# Altium integrated library Analog Devices Amplifiers and Linear Voltage References.IntLib: 547 symbols (part 18 of 20)
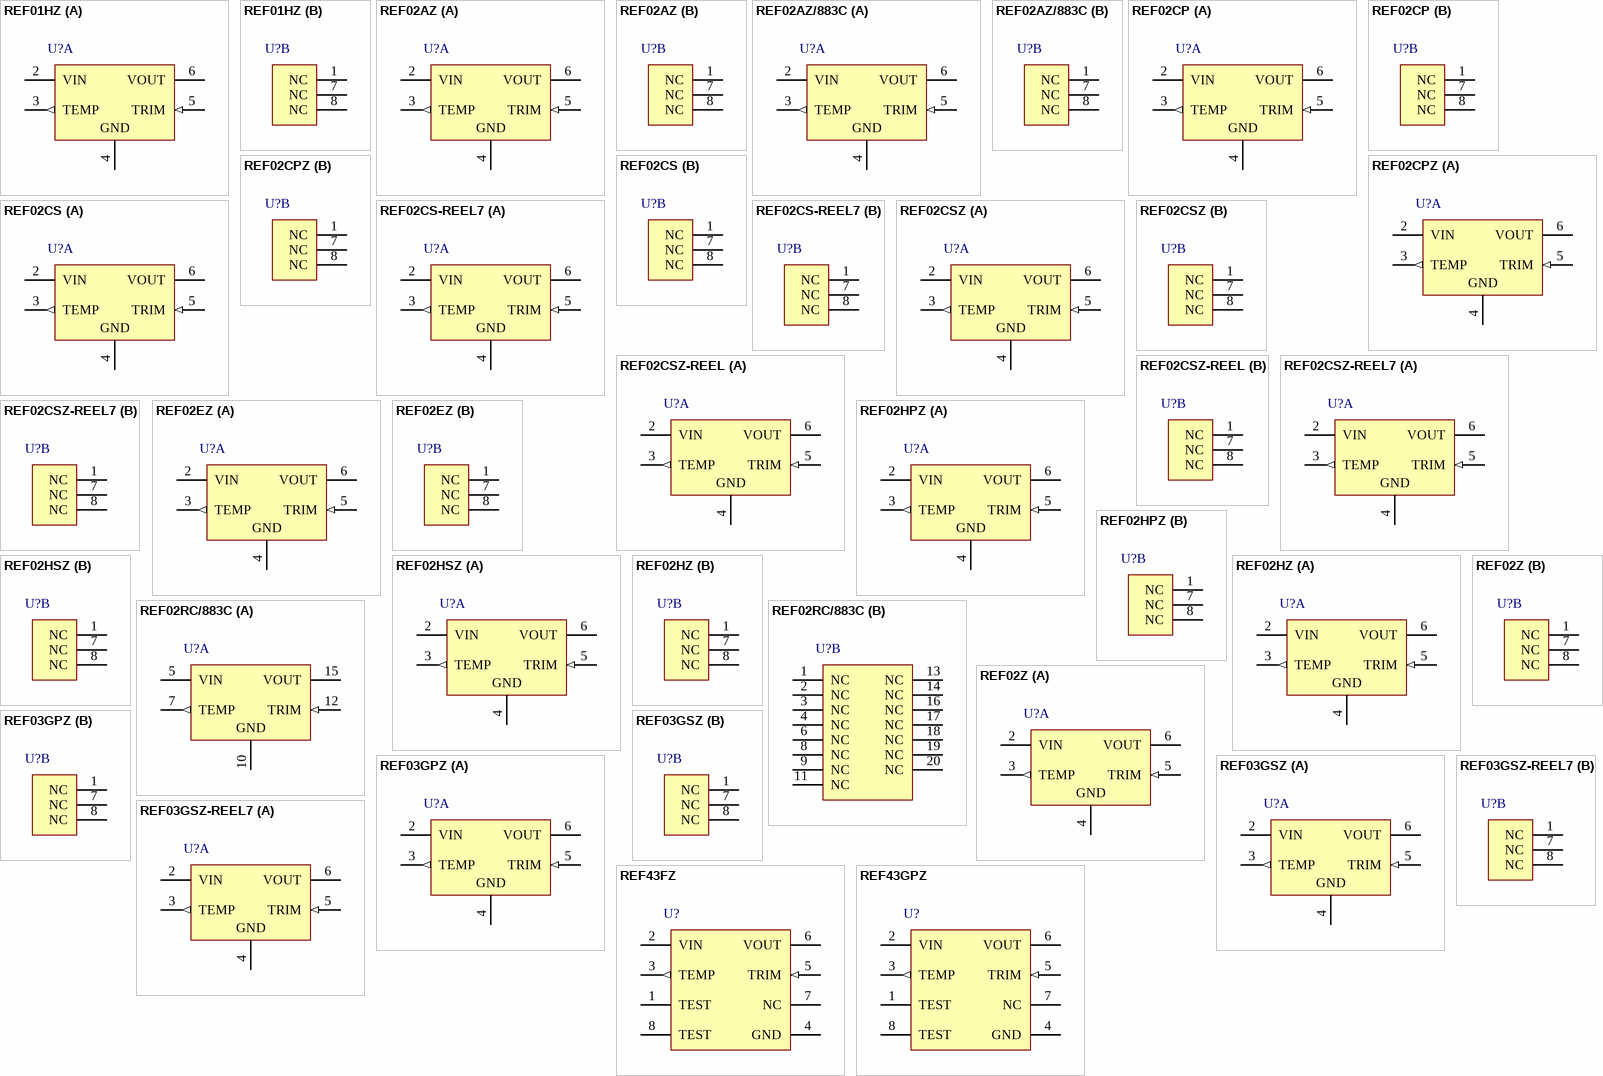
[diagram p37: symbols REF01HZ to REF43GPZ]

## REF43FZ
designator U?
Low Power Precision Voltage Reference, 2.5 V Output, 4.5 to 40 V Supply, Industrial, 8-pin DIP (Q-8), Tube; Manufacturer: Analog Devices; PartNumber: REF43FZ; Max V Supply (V): 40; Min V Supply (V): 4.5; Ref Out TC (ppm/C): 10; Vout: 2.5V; DatasheetVersion: Rev. D; PackageVersion: Aug-05; PackageReference: Q-8; PackageDescription: 8-Pin Ceramic Dual In-Line Package, Row spacing 7.62 mm, Pitch 2.54 mm; Supplier 1: Digi-Key; Supplier Part Number 1: REF43FZ-ND; Supplier 2: Newark; Supplier Part Number 2: 05F9000; Supplier 3: Mouser; Supplier Part Number 3: 584-REF43FZ; Packing: Tube; Operating Temp Range: -40 to 85 degC; Mounting Technology: Through Hole; ComponentLink1Description: Manufacturer URL; ComponentLink1URL: http://www.analog.com/en/index.html; ComponentLink2Description: Datasheet; ComponentLink2URL: http://www.analog.com/static/imported-files/data_sheets/REF43.pdf; ComponentLink3Description: Package Specification; ComponentLink3URL: http://www.analog.com/static/imported-files/packages/3925655241313314758Q_8.pdf; ComponentLink4Description: URL Link1; ComponentLink4URL: Product URL:http://www.analog.com/en/special-linear-functions/voltage-references/ref43/products/product.html
footprint ADI-Q-8 (DIP, 8-Leads, Body 10.29x6.73mm, Pitch 2.54mm)
pins: 1 TEST, 2 VIN (power), 3 TEMP (out), 4 GND (power), 5 TRIM (in), 6 VOUT (power), 7 NC, 8 TEST

## REF43GPZ
designator U?
Low Power Precision Voltage Reference, 2.5 V Output, 4.5 to 40 V Supply, Industrial, 8-pin DIP (N-8), Tube; Manufacturer: Analog Devices; PartNumber: REF43GPZ; Max V Supply (V): 40; Min V Supply (V): 4.5; Ref Out TC (ppm/C): 25; Vout: 2.5V; DatasheetVersion: Rev. D; PackageVersion: 070606-A, 07/2006; PackageReference: N-8; PackageDescription: 8-Pin Plastic Dual In-Line Package, Row spacing 7.62 mm, Pitch 2.54 mm; Supplier 1: Digi-Key; Supplier Part Number 1: REF43GPZ-ND; Supplier 2: Farnell; Supplier Part Number 2: 9605100; Supplier 3: Newark; Supplier Part Number 3: 19M1043; Supplier 4: Mouser; Supplier Part Number 4: 584-REF43GPZ; Packing: Tube; Operating Temp Range: -40 to 85 degC; Mounting Technology: Through Hole; Code_JEDEC: MS-001; ComponentLink1Description: Manufacturer URL; ComponentLink1URL: http://www.analog.com/en/index.html; ComponentLink2Description: Datasheet; ComponentLink2URL: http://www.analog.com/static/imported-files/data_sheets/REF43.pdf; ComponentLink3Description: Package Specification; ComponentLink3URL: http:/www.analog.com/static/imported-files/packages/PKG_PDF/PDIP(N)/N_8.pdf; ComponentLink4Description: URL Link1; ComponentLink4URL: Product URL:http://www.analog.com/en/special-linear-functions/voltage-references/ref43/products/product.html
footprint ADI-N-8 (DIP, 8-Leads, Body 9.59x6.6mm, Pitch 2.54mm)
pins: 1 TEST, 2 VIN (power), 3 TEMP (out), 4 GND (power), 5 TRIM (in), 6 VOUT (power), 7 NC, 8 TEST

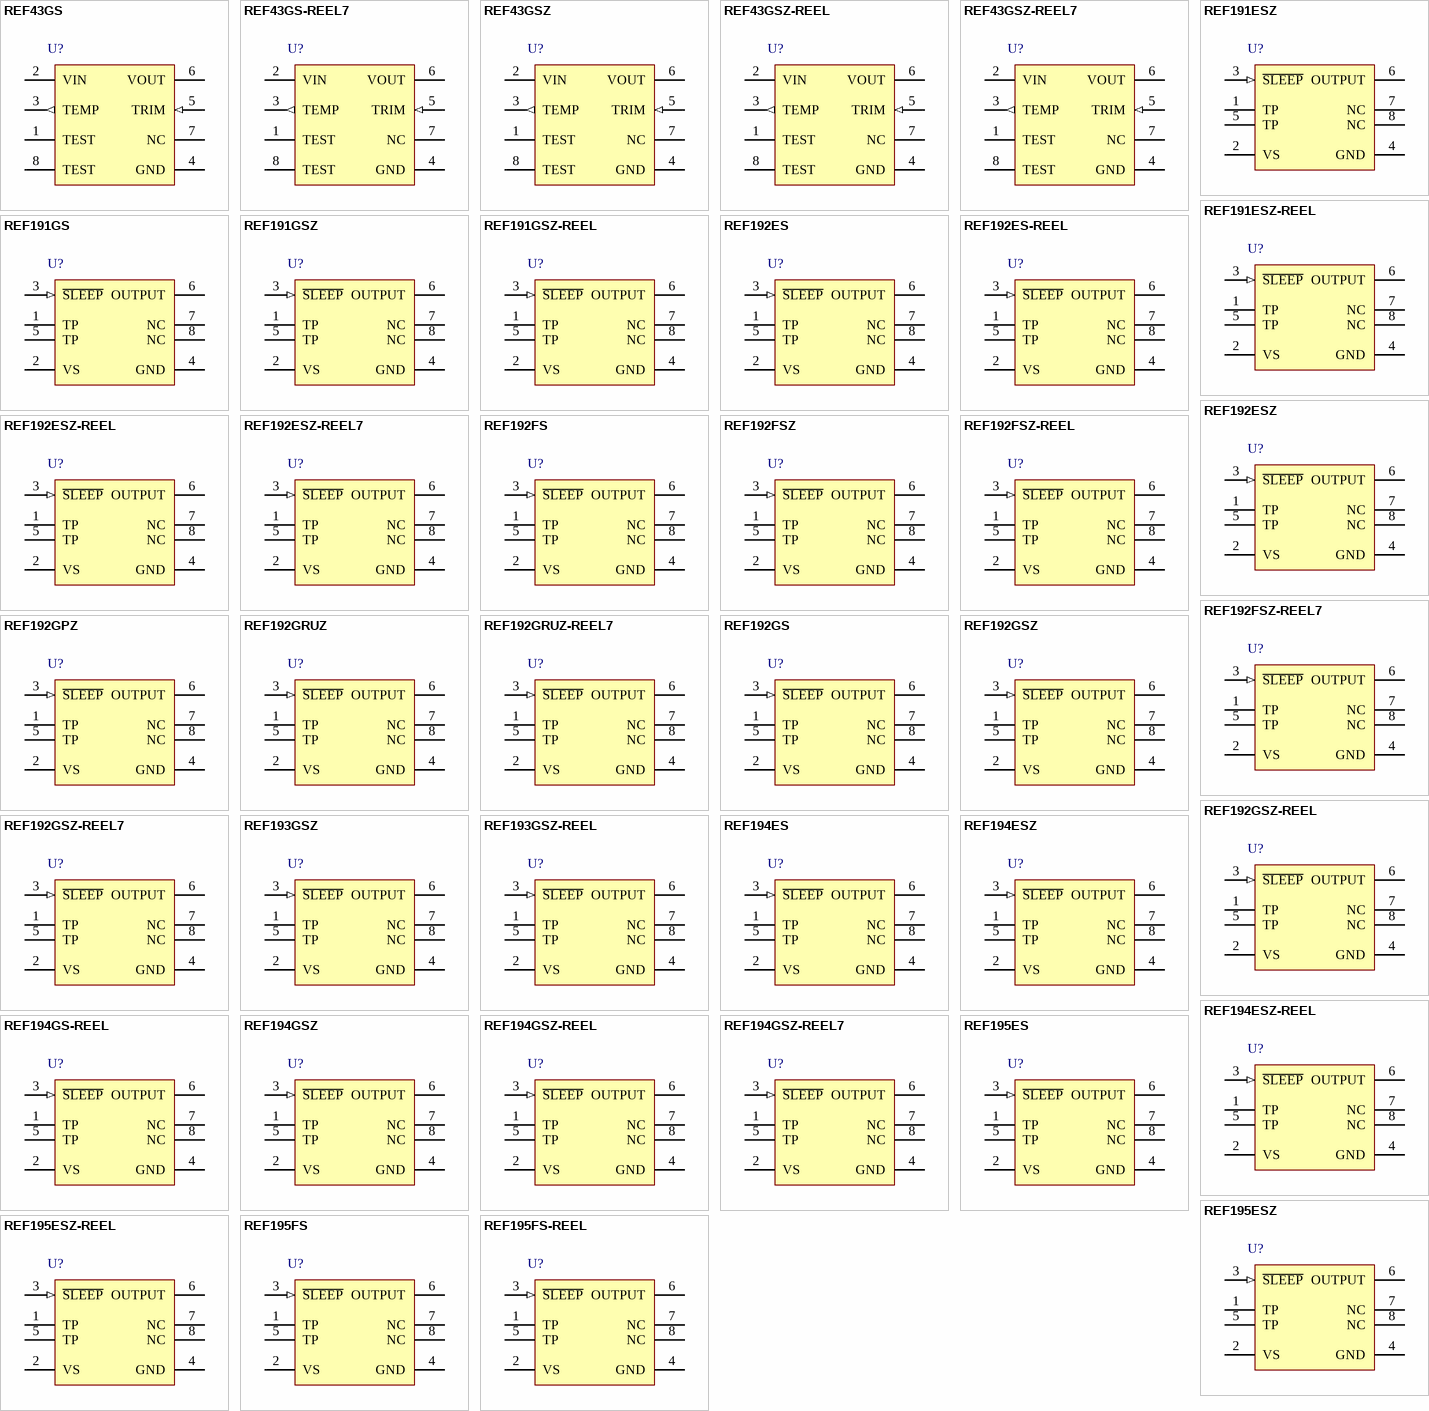
[diagram p19: symbols REF43GS to REF195FS-REEL]

## REF43GS
designator U?
Low Power Precision Voltage Reference, 2.5 V Output, 4.5 to 40 V Supply, Industrial, 8-pin SOIC (R-8), Tube; Manufacturer: Analog Devices; PartNumber: REF43GS; Max V Supply (V): 40; Min V Supply (V): 4.5; Ref Out TC (ppm/C): 25; Vout: 2.5V; DatasheetVersion: Rev. D; PackageVersion: 060506-A, 06/2006; PackageReference: R-8; PackageDescription: 8-Pin Standard Small Outline Package, Body 4.9 x 3.9 mm, Pitch 1.27 mm; Supplier 1: Digi-Key; Supplier Part Number 1: REF43GS-ND; Supplier 2: Mouser; Supplier Part Number 2: N/A; Packing: Tube; Operating Temp Range: -40 to 85 degC; Mounting Technology: Surface Mount; Code_JEDEC: MS-012-AA; ComponentLink1Description: Manufacturer URL; ComponentLink1URL: http://www.analog.com/en/index.html; ComponentLink2Description: Datasheet; ComponentLink2URL: http://www.analog.com/static/imported-files/data_sheets/REF43.pdf; ComponentLink3Description: Package Specification; ComponentLink3URL: http://www.analog.com/static/imported-files/packages/PKG_PDF/SOIC_Narrow%20(R)/R_8.pdf; ComponentLink4Description: URL Link1; ComponentLink4URL: Product URL:http://www.analog.com/en/special-linear-functions/voltage-references/ref43/products/product.html
footprint ADI-R-8_N (SOIC, 8-Leads, Body 4.9x3.9mm, Pitch 1.27mm, IPC Medium Density)
footprint ADI-R-8_L (SOIC, 8-Leads, Body 4.9x3.9mm, Pitch 1.27mm, IPC High Density)
footprint ADI-R-8_M (SOIC, 8-Leads, Body 4.9x3.9mm, Pitch 1.27mm, IPC Low Density)
pins: 1 TEST, 2 VIN (power), 3 TEMP (out), 4 GND (power), 5 TRIM (in), 6 VOUT (power), 7 NC, 8 TEST

## REF43GS-REEL7
designator U?
Low Power Precision Voltage Reference, 2.5 V Output, 4.5 to 40 V Supply, Industrial, 8-pin SOIC (R-8), Reel; Manufacturer: Analog Devices; PartNumber: REF43GS-REEL7; Max V Supply (V): 40; Min V Supply (V): 4.5; Ref Out TC (ppm/C): 25; Vout: 2.5V; DatasheetVersion: Rev. D; PackageVersion: 060506-A, 06/2006; PackageReference: R-8; PackageDescription: 8-Pin Standard Small Outline Package, Body 4.9 x 3.9 mm, Pitch 1.27 mm; Supplier 1: Digi-Key; Supplier Part Number 1: REF43GS-REEL7-ND; Supplier 2: Newark; Supplier Part Number 2: 98B7586; Supplier 3: Mouser; Supplier Part Number 3: N/A; Packing: Reel; Operating Temp Range: -40 to 85 degC; Mounting Technology: Surface Mount; Code_JEDEC: MS-012-AA; ComponentLink1Description: Manufacturer URL; ComponentLink1URL: http://www.analog.com/en/index.html; ComponentLink2Description: Datasheet; ComponentLink2URL: http://www.analog.com/static/imported-files/data_sheets/REF43.pdf; ComponentLink3Description: Package Specification; ComponentLink3URL: http://www.analog.com/static/imported-files/packages/PKG_PDF/SOIC_Narrow%20(R)/R_8.pdf; ComponentLink4Description: URL Link1; ComponentLink4URL: Product URL:http://www.analog.com/en/special-linear-functions/voltage-references/ref43/products/product.html
footprint ADI-R-8_N (SOIC, 8-Leads, Body 4.9x3.9mm, Pitch 1.27mm, IPC Medium Density)
footprint ADI-R-8_L (SOIC, 8-Leads, Body 4.9x3.9mm, Pitch 1.27mm, IPC High Density)
footprint ADI-R-8_M (SOIC, 8-Leads, Body 4.9x3.9mm, Pitch 1.27mm, IPC Low Density)
pins: 1 TEST, 2 VIN (power), 3 TEMP (out), 4 GND (power), 5 TRIM (in), 6 VOUT (power), 7 NC, 8 TEST

## REF43GSZ
designator U?
Low Power Precision Voltage Reference, 2.5 V Output, 4.5 to 40 V Supply, Industrial, 8-pin SOIC (R-8), Tube; Manufacturer: Analog Devices; PartNumber: REF43GSZ; Max V Supply (V): 40; Min V Supply (V): 4.5; Ref Out TC (ppm/C): 25; Vout: 2.5V; DatasheetVersion: Rev. D; PackageVersion: 060506-A, 06/2006; PackageReference: R-8; PackageDescription: 8-Pin Standard Small Outline Package, Body 4.9 x 3.9 mm, Pitch 1.27 mm; Supplier 1: Digi-Key; Supplier Part Number 1: REF43GSZ-ND; Supplier 2: Farnell; Supplier Part Number 2: 1651197; Supplier 3: Newark; Supplier Part Number 3: 59K9069; Supplier 4: Mouser; Supplier Part Number 4: 584-REF43GSZ; Packing: Tube; Operating Temp Range: -40 to 85 degC; Mounting Technology: Surface Mount; Code_JEDEC: MS-012-AA; ComponentLink1Description: Manufacturer URL; ComponentLink1URL: http://www.analog.com/en/index.html; ComponentLink2Description: Datasheet; ComponentLink2URL: http://www.analog.com/static/imported-files/data_sheets/REF43.pdf; ComponentLink3Description: Package Specification; ComponentLink3URL: http://www.analog.com/static/imported-files/packages/PKG_PDF/SOIC_Narrow%20(R)/R_8.pdf; ComponentLink4Description: URL Link1; ComponentLink4URL: Product URL:http://www.analog.com/en/special-linear-functions/voltage-references/ref43/products/product.html
footprint ADI-R-8_N (SOIC, 8-Leads, Body 4.9x3.9mm, Pitch 1.27mm, IPC Medium Density)
footprint ADI-R-8_L (SOIC, 8-Leads, Body 4.9x3.9mm, Pitch 1.27mm, IPC High Density)
footprint ADI-R-8_M (SOIC, 8-Leads, Body 4.9x3.9mm, Pitch 1.27mm, IPC Low Density)
pins: 1 TEST, 2 VIN (power), 3 TEMP (out), 4 GND (power), 5 TRIM (in), 6 VOUT (power), 7 NC, 8 TEST

## REF43GSZ-REEL
designator U?
Low Power Precision Voltage Reference, 2.5 V Output, 4.5 to 40 V Supply, Industrial, 8-pin SOIC (R-8), Reel; Manufacturer: Analog Devices; PartNumber: REF43GSZ-REEL; Max V Supply (V): 40; Min V Supply (V): 4.5; Ref Out TC (ppm/C): 25; Vout: 2.5V; DatasheetVersion: Rev. D; PackageVersion: 060506-A, 06/2006; PackageReference: R-8; PackageDescription: 8-Pin Standard Small Outline Package, Body 4.9 x 3.9 mm, Pitch 1.27 mm; Supplier 1: Digi-Key; Supplier Part Number 1: REF43GSZ-REEL-ND; Supplier 2: Newark; Supplier Part Number 2: 59K9070; Supplier 3: Mouser; Supplier Part Number 3: 584-REF43GSZ-R; Packing: Reel; Operating Temp Range: -40 to 85 degC; Mounting Technology: Surface Mount; Code_JEDEC: MS-012-AA; ComponentLink1Description: Manufacturer URL; ComponentLink1URL: http://www.analog.com/en/index.html; ComponentLink2Description: Datasheet; ComponentLink2URL: http://www.analog.com/static/imported-files/data_sheets/REF43.pdf; ComponentLink3Description: Package Specification; ComponentLink3URL: http://www.analog.com/static/imported-files/packages/PKG_PDF/SOIC_Narrow%20(R)/R_8.pdf; ComponentLink4Description: URL Link1; ComponentLink4URL: Product URL:http://www.analog.com/en/special-linear-functions/voltage-references/ref43/products/product.html
footprint ADI-R-8_N (SOIC, 8-Leads, Body 4.9x3.9mm, Pitch 1.27mm, IPC Medium Density)
footprint ADI-R-8_L (SOIC, 8-Leads, Body 4.9x3.9mm, Pitch 1.27mm, IPC High Density)
footprint ADI-R-8_M (SOIC, 8-Leads, Body 4.9x3.9mm, Pitch 1.27mm, IPC Low Density)
pins: 1 TEST, 2 VIN (power), 3 TEMP (out), 4 GND (power), 5 TRIM (in), 6 VOUT (power), 7 NC, 8 TEST

## REF43GSZ-REEL7
designator U?
Low Power Precision Voltage Reference, 2.5 V Output, 4.5 to 40 V Supply, Industrial, 8-pin SOIC (R-8), Reel; Manufacturer: Analog Devices; PartNumber: REF43GSZ-REEL7; Max V Supply (V): 40; Min V Supply (V): 4.5; Ref Out TC (ppm/C): 25; Vout: 2.5V; DatasheetVersion: Rev. D; PackageVersion: 060506-A, 06/2006; PackageReference: R-8; PackageDescription: 8-Pin Standard Small Outline Package, Body 4.9 x 3.9 mm, Pitch 1.27 mm; Supplier 1: Digi-Key; Supplier Part Number 1: REF43GSZ-REEL7TR-ND; Supplier 2: Digi-Key; Supplier Part Number 2: REF43GSZ-REEL7CT-ND; Supplier 3: Digi-Key; Supplier Part Number 3: REF43GSZ-REEL7DKR-ND; Supplier 4: Newark; Supplier Part Number 4: 59K9071; Supplier 5: Mouser; Supplier Part Number 5: 584-REF43GSZ-R7; Packing: Reel; Operating Temp Range: -40 to 85 degC; Mounting Technology: Surface Mount; Code_JEDEC: MS-012-AA; ComponentLink1Description: Manufacturer URL; ComponentLink1URL: http://www.analog.com/en/index.html; ComponentLink2Description: Datasheet; ComponentLink2URL: http://www.analog.com/static/imported-files/data_sheets/REF43.pdf; ComponentLink3Description: Package Specification; ComponentLink3URL: http://www.analog.com/static/imported-files/packages/PKG_PDF/SOIC_Narrow%20(R)/R_8.pdf; ComponentLink4Description: URL Link1; ComponentLink4URL: Product URL:http://www.analog.com/en/special-linear-functions/voltage-references/ref43/products/product.html
footprint ADI-R-8_N (SOIC, 8-Leads, Body 4.9x3.9mm, Pitch 1.27mm, IPC Medium Density)
footprint ADI-R-8_L (SOIC, 8-Leads, Body 4.9x3.9mm, Pitch 1.27mm, IPC High Density)
footprint ADI-R-8_M (SOIC, 8-Leads, Body 4.9x3.9mm, Pitch 1.27mm, IPC Low Density)
pins: 1 TEST, 2 VIN (power), 3 TEMP (out), 4 GND (power), 5 TRIM (in), 6 VOUT (power), 7 NC, 8 TEST

## REF191ESZ
designator U?
Precision Micropower, Low Dropout Voltage Reference, 2.048 V Output, 2.3 to 15 V Supply, Industrial, 8-pin SOIC (R-8), Tube; Manufacturer: Analog Devices; PartNumber: REF191ESZ; Ref Out TC (ppm/C): 2; Vout: 2.048V; DatasheetVersion: Rev. L; PackageVersion: 060506-A, 06/2006; PackageReference: R-8; PackageDescription: 8-Pin Standard Small Outline Package, Body 4.9 x 3.9 mm, Pitch 1.27 mm; Supplier 1: Digi-Key; Supplier Part Number 1: REF191ESZ-ND; Supplier 2: Newark; Supplier Part Number 2: 19M8994; Supplier 3: Mouser; Supplier Part Number 3: 584-REF191ESZ; Packing: Tube; Operating Temp Range: -40 to 85 degC; Mounting Technology: Surface Mount; Code_JEDEC: MS-012-AA; ComponentLink1Description: Manufacturer URL; ComponentLink1URL: http://www.analog.com/en/index.html; ComponentLink2Description: Datasheet; ComponentLink2URL: http://www.analog.com/static/imported-files/data_sheets/REF19xSeries.pdf; ComponentLink3Description: Package Specification; ComponentLink3URL: http://www.analog.com/static/imported-files/packages/PKG_PDF/SOIC_Narrow%20(R)/R_8.pdf; ComponentLink4Description: URL Link1; ComponentLink4URL: Product URL:http://www.analog.com/en/special-linear-functions/voltage-references/ref191/products/product.html
footprint ADI-R-8_N (SOIC, 8-Leads, Body 4.9x3.9mm, Pitch 1.27mm, IPC Medium Density)
footprint ADI-R-8_L (SOIC, 8-Leads, Body 4.9x3.9mm, Pitch 1.27mm, IPC High Density)
footprint ADI-R-8_M (SOIC, 8-Leads, Body 4.9x3.9mm, Pitch 1.27mm, IPC Low Density)
pins: 1 TP, 2 VS (power), 3 ~{SLEEP} (in), 4 GND (power), 5 TP, 6 OUTPUT (hiz), 7 NC, 8 NC

## REF191ESZ-REEL
designator U?
Precision Micropower, Low Dropout Voltage Reference, 2.048 V Output, 2.3 to 15 V Supply, Industrial, 8-pin SOIC (R-8), Reel; Manufacturer: Analog Devices; PartNumber: REF191ESZ-REEL; Ref Out TC (ppm/C): 2; Vout: 2.048V; DatasheetVersion: Rev. L; PackageVersion: 060506-A, 06/2006; PackageReference: R-8; PackageDescription: 8-Pin Standard Small Outline Package, Body 4.9 x 3.9 mm, Pitch 1.27 mm; Supplier 1: Digi-Key; Supplier Part Number 1: REF191ESZ-REELTR-ND; Supplier 2: Digi-Key; Supplier Part Number 2: REF191ESZ-REELCT-ND; Supplier 3: Digi-Key; Supplier Part Number 3: REF191ESZ-REELDKR-ND; Supplier 4: Newark; Supplier Part Number 4: 59K9021; Supplier 5: Mouser; Supplier Part Number 5: 584-REF191ESZ-R; Packing: Reel; Operating Temp Range: -40 to 85 degC; Mounting Technology: Surface Mount; Code_JEDEC: MS-012-AA; ComponentLink1Description: Manufacturer URL; ComponentLink1URL: http://www.analog.com/en/index.html; ComponentLink2Description: Datasheet; ComponentLink2URL: http://www.analog.com/static/imported-files/data_sheets/REF19xSeries.pdf; ComponentLink3Description: Package Specification; ComponentLink3URL: http://www.analog.com/static/imported-files/packages/PKG_PDF/SOIC_Narrow%20(R)/R_8.pdf; ComponentLink4Description: URL Link1; ComponentLink4URL: Product URL:http://www.analog.com/en/special-linear-functions/voltage-references/ref191/products/product.html
footprint ADI-R-8_N (SOIC, 8-Leads, Body 4.9x3.9mm, Pitch 1.27mm, IPC Medium Density)
footprint ADI-R-8_L (SOIC, 8-Leads, Body 4.9x3.9mm, Pitch 1.27mm, IPC High Density)
footprint ADI-R-8_M (SOIC, 8-Leads, Body 4.9x3.9mm, Pitch 1.27mm, IPC Low Density)
pins: 1 TP, 2 VS (power), 3 ~{SLEEP} (in), 4 GND (power), 5 TP, 6 OUTPUT (hiz), 7 NC, 8 NC

## REF191GS
designator U?
Precision Micropower, Low Dropout Voltage Reference, 2.048 V Output, 2.3 to 15 V Supply, Industrial, 8-pin SOIC (R-8), Tube; Manufacturer: Analog Devices; PartNumber: REF191GS; Ref Out TC (ppm/C): 10; Vout: 2.048V; DatasheetVersion: Rev. L; PackageVersion: 060506-A, 06/2006; PackageReference: R-8; PackageDescription: 8-Pin Standard Small Outline Package, Body 4.9 x 3.9 mm, Pitch 1.27 mm; Supplier 1: Digi-Key; Supplier Part Number 1: REF191GS-ND; Supplier 2: Mouser; Supplier Part Number 2: N/A; Packing: Tube; Operating Temp Range: -40 to 85 degC; Mounting Technology: Surface Mount; Code_JEDEC: MS-012-AA; ComponentLink1Description: Manufacturer URL; ComponentLink1URL: http://www.analog.com/en/index.html; ComponentLink2Description: Datasheet; ComponentLink2URL: http://www.analog.com/static/imported-files/data_sheets/REF19xSeries.pdf; ComponentLink3Description: Package Specification; ComponentLink3URL: http://www.analog.com/static/imported-files/packages/PKG_PDF/SOIC_Narrow%20(R)/R_8.pdf; ComponentLink4Description: URL Link1; ComponentLink4URL: Product URL:http://www.analog.com/en/special-linear-functions/voltage-references/ref191/products/product.html
footprint ADI-R-8_N (SOIC, 8-Leads, Body 4.9x3.9mm, Pitch 1.27mm, IPC Medium Density)
footprint ADI-R-8_L (SOIC, 8-Leads, Body 4.9x3.9mm, Pitch 1.27mm, IPC High Density)
footprint ADI-R-8_M (SOIC, 8-Leads, Body 4.9x3.9mm, Pitch 1.27mm, IPC Low Density)
pins: 1 TP, 2 VS (power), 3 ~{SLEEP} (in), 4 GND (power), 5 TP, 6 OUTPUT (hiz), 7 NC, 8 NC

## REF191GSZ
designator U?
Precision Micropower, Low Dropout Voltage Reference, 2.048 V Output, 2.3 to 15 V Supply, Industrial, 8-pin SOIC (R-8), Tube; Manufacturer: Analog Devices; PartNumber: REF191GSZ; Ref Out TC (ppm/C): 10; Vout: 2.048V; DatasheetVersion: Rev. L; PackageVersion: 060506-A, 06/2006; PackageReference: R-8; PackageDescription: 8-Pin Standard Small Outline Package, Body 4.9 x 3.9 mm, Pitch 1.27 mm; Supplier 1: Digi-Key; Supplier Part Number 1: REF191GSZ-ND; Supplier 2: Newark; Supplier Part Number 2: 19M8995; Supplier 3: Mouser; Supplier Part Number 3: 584-REF191GSZ; Packing: Tube; Operating Temp Range: -40 to 85 degC; Mounting Technology: Surface Mount; Code_JEDEC: MS-012-AA; ComponentLink1Description: Manufacturer URL; ComponentLink1URL: http://www.analog.com/en/index.html; ComponentLink2Description: Datasheet; ComponentLink2URL: http://www.analog.com/static/imported-files/data_sheets/REF19xSeries.pdf; ComponentLink3Description: Package Specification; ComponentLink3URL: http://www.analog.com/static/imported-files/packages/PKG_PDF/SOIC_Narrow%20(R)/R_8.pdf; ComponentLink4Description: URL Link1; ComponentLink4URL: Product URL:http://www.analog.com/en/special-linear-functions/voltage-references/ref191/products/product.html
footprint ADI-R-8_N (SOIC, 8-Leads, Body 4.9x3.9mm, Pitch 1.27mm, IPC Medium Density)
footprint ADI-R-8_L (SOIC, 8-Leads, Body 4.9x3.9mm, Pitch 1.27mm, IPC High Density)
footprint ADI-R-8_M (SOIC, 8-Leads, Body 4.9x3.9mm, Pitch 1.27mm, IPC Low Density)
pins: 1 TP, 2 VS (power), 3 ~{SLEEP} (in), 4 GND (power), 5 TP, 6 OUTPUT (hiz), 7 NC, 8 NC

## REF191GSZ-REEL
designator U?
Precision Micropower, Low Dropout Voltage Reference, 2.048 V Output, 2.3 to 15 V Supply, Industrial, 8-pin SOIC (R-8), Reel; Manufacturer: Analog Devices; PartNumber: REF191GSZ-REEL; Ref Out TC (ppm/C): 10; Vout: 2.048V; DatasheetVersion: Rev. L; PackageVersion: 060506-A, 06/2006; PackageReference: R-8; PackageDescription: 8-Pin Standard Small Outline Package, Body 4.9 x 3.9 mm, Pitch 1.27 mm; Supplier 1: Digi-Key; Supplier Part Number 1: REF191GSZ-REEL-ND; Supplier 2: Newark; Supplier Part Number 2: 59K9024; Supplier 3: Mouser; Supplier Part Number 3: 584-REF191GSZ-R; Packing: Reel; Operating Temp Range: -40 to 85 degC; Mounting Technology: Surface Mount; Code_JEDEC: MS-012-AA; ComponentLink1Description: Manufacturer URL; ComponentLink1URL: http://www.analog.com/en/index.html; ComponentLink2Description: Datasheet; ComponentLink2URL: http://www.analog.com/static/imported-files/data_sheets/REF19xSeries.pdf; ComponentLink3Description: Package Specification; ComponentLink3URL: http://www.analog.com/static/imported-files/packages/PKG_PDF/SOIC_Narrow%20(R)/R_8.pdf; ComponentLink4Description: URL Link1; ComponentLink4URL: Product URL:http://www.analog.com/en/special-linear-functions/voltage-references/ref191/products/product.html
footprint ADI-R-8_N (SOIC, 8-Leads, Body 4.9x3.9mm, Pitch 1.27mm, IPC Medium Density)
footprint ADI-R-8_L (SOIC, 8-Leads, Body 4.9x3.9mm, Pitch 1.27mm, IPC High Density)
footprint ADI-R-8_M (SOIC, 8-Leads, Body 4.9x3.9mm, Pitch 1.27mm, IPC Low Density)
pins: 1 TP, 2 VS (power), 3 ~{SLEEP} (in), 4 GND (power), 5 TP, 6 OUTPUT (hiz), 7 NC, 8 NC

## REF192ES
designator U?
Precision Micropower, Low Dropout Voltage Reference, 2.5 V Output, 2.6 to 15 V Supply, Industrial, 8-pin SOIC (R-8), Tube; Manufacturer: Analog Devices; PartNumber: REF192ES; Ref Out TC (ppm/C): 2; Vout: 2.5V; DatasheetVersion: Rev. L; PackageVersion: 060506-A, 06/2006; PackageReference: R-8; PackageDescription: 8-Pin Standard Small Outline Package, Body 4.9 x 3.9 mm, Pitch 1.27 mm; Supplier 1: Digi-Key; Supplier Part Number 1: REF192ES-ND; Supplier 2: Mouser; Supplier Part Number 2: N/A; Packing: Tube; Operating Temp Range: -40 to 85 degC; Mounting Technology: Surface Mount; Code_JEDEC: MS-012-AA; ComponentLink1Description: Manufacturer URL; ComponentLink1URL: http://www.analog.com/en/index.html; ComponentLink2Description: Datasheet; ComponentLink2URL: http://www.analog.com/static/imported-files/data_sheets/REF19xSeries.pdf; ComponentLink3Description: Package Specification; ComponentLink3URL: http://www.analog.com/static/imported-files/packages/PKG_PDF/SOIC_Narrow%20(R)/R_8.pdf; ComponentLink4Description: URL Link1; ComponentLink4URL: Product URL:http://www.analog.com/en/special-linear-functions/voltage-references/ref192/products/product.html
footprint ADI-R-8_N (SOIC, 8-Leads, Body 4.9x3.9mm, Pitch 1.27mm, IPC Medium Density)
footprint ADI-R-8_L (SOIC, 8-Leads, Body 4.9x3.9mm, Pitch 1.27mm, IPC High Density)
footprint ADI-R-8_M (SOIC, 8-Leads, Body 4.9x3.9mm, Pitch 1.27mm, IPC Low Density)
pins: 1 TP, 2 VS (power), 3 ~{SLEEP} (in), 4 GND (power), 5 TP, 6 OUTPUT (hiz), 7 NC, 8 NC

## REF192ES-REEL
designator U?
Precision Micropower, Low Dropout Voltage Reference, 2.5 V Output, 2.6 to 15 V Supply, Industrial, 8-pin SOIC (R-8), Reel; Manufacturer: Analog Devices; PartNumber: REF192ES-REEL; Ref Out TC (ppm/C): 2; Vout: 2.5V; DatasheetVersion: Rev. L; PackageVersion: 060506-A, 06/2006; PackageReference: R-8; PackageDescription: 8-Pin Standard Small Outline Package, Body 4.9 x 3.9 mm, Pitch 1.27 mm; Supplier 1: Digi-Key; Supplier Part Number 1: REF192ES-REELTR-ND; Supplier 2: Digi-Key; Supplier Part Number 2: REF192ES-REELCT-ND; Supplier 3: Digi-Key; Supplier Part Number 3: REF192ES-REELDKR-ND; Supplier 4: Newark; Supplier Part Number 4: 13B4760; Supplier 5: Mouser; Supplier Part Number 5: 584-REF192ES-R; Packing: Reel; Operating Temp Range: -40 to 85 degC; Mounting Technology: Surface Mount; Code_JEDEC: MS-012-AA; ComponentLink1Description: Manufacturer URL; ComponentLink1URL: http://www.analog.com/en/index.html; ComponentLink2Description: Datasheet; ComponentLink2URL: http://www.analog.com/static/imported-files/data_sheets/REF19xSeries.pdf; ComponentLink3Description: Package Specification; ComponentLink3URL: http://www.analog.com/static/imported-files/packages/PKG_PDF/SOIC_Narrow%20(R)/R_8.pdf; ComponentLink4Description: URL Link1; ComponentLink4URL: Product URL:http://www.analog.com/en/special-linear-functions/voltage-references/ref192/products/product.html
footprint ADI-R-8_N (SOIC, 8-Leads, Body 4.9x3.9mm, Pitch 1.27mm, IPC Medium Density)
footprint ADI-R-8_L (SOIC, 8-Leads, Body 4.9x3.9mm, Pitch 1.27mm, IPC High Density)
footprint ADI-R-8_M (SOIC, 8-Leads, Body 4.9x3.9mm, Pitch 1.27mm, IPC Low Density)
pins: 1 TP, 2 VS (power), 3 ~{SLEEP} (in), 4 GND (power), 5 TP, 6 OUTPUT (hiz), 7 NC, 8 NC

## REF192ESZ
designator U?
Precision Micropower, Low Dropout Voltage Reference, 2.5 V Output, 2.6 to 15 V Supply, Industrial, 8-pin SOIC (R-8), Tube; Manufacturer: Analog Devices; PartNumber: REF192ESZ; Ref Out TC (ppm/C): 2; Vout: 2.5V; DatasheetVersion: Rev. L; PackageVersion: 060506-A, 06/2006; PackageReference: R-8; PackageDescription: 8-Pin Standard Small Outline Package, Body 4.9 x 3.9 mm, Pitch 1.27 mm; Supplier 1: Digi-Key; Supplier Part Number 1: REF192ESZ-ND; Supplier 2: Newark; Supplier Part Number 2: 19M8996; Supplier 3: Mouser; Supplier Part Number 3: 584-REF192ESZ; Packing: Tube; Operating Temp Range: -40 to 85 degC; Mounting Technology: Surface Mount; Code_JEDEC: MS-012-AA; ComponentLink1Description: Manufacturer URL; ComponentLink1URL: http://www.analog.com/en/index.html; ComponentLink2Description: Datasheet; ComponentLink2URL: http://www.analog.com/static/imported-files/data_sheets/REF19xSeries.pdf; ComponentLink3Description: Package Specification; ComponentLink3URL: http://www.analog.com/static/imported-files/packages/PKG_PDF/SOIC_Narrow%20(R)/R_8.pdf; ComponentLink4Description: URL Link1; ComponentLink4URL: Product URL:http://www.analog.com/en/special-linear-functions/voltage-references/ref192/products/product.html
footprint ADI-R-8_N (SOIC, 8-Leads, Body 4.9x3.9mm, Pitch 1.27mm, IPC Medium Density)
footprint ADI-R-8_L (SOIC, 8-Leads, Body 4.9x3.9mm, Pitch 1.27mm, IPC High Density)
footprint ADI-R-8_M (SOIC, 8-Leads, Body 4.9x3.9mm, Pitch 1.27mm, IPC Low Density)
pins: 1 TP, 2 VS (power), 3 ~{SLEEP} (in), 4 GND (power), 5 TP, 6 OUTPUT (hiz), 7 NC, 8 NC

## REF192ESZ-REEL
designator U?
Precision Micropower, Low Dropout Voltage Reference, 2.5 V Output, 2.6 to 15 V Supply, Industrial, 8-pin SOIC (R-8), Reel; Manufacturer: Analog Devices; PartNumber: REF192ESZ-REEL; Ref Out TC (ppm/C): 2; Vout: 2.5V; DatasheetVersion: Rev. L; PackageVersion: 060506-A, 06/2006; PackageReference: R-8; PackageDescription: 8-Pin Standard Small Outline Package, Body 4.9 x 3.9 mm, Pitch 1.27 mm; Supplier 1: Digi-Key; Supplier Part Number 1: REF192ESZ-REELTR-ND; Supplier 2: Digi-Key; Supplier Part Number 2: REF192ESZ-REELCT-ND; Supplier 3: Digi-Key; Supplier Part Number 3: REF192ESZ-REELDKR-ND; Supplier 4: Newark; Supplier Part Number 4: 59K9026; Supplier 5: Mouser; Supplier Part Number 5: 584-REF192ESZ-R; Packing: Reel; Operating Temp Range: -40 to 85 degC; Mounting Technology: Surface Mount; Code_JEDEC: MS-012-AA; ComponentLink1Description: Manufacturer URL; ComponentLink1URL: http://www.analog.com/en/index.html; ComponentLink2Description: Datasheet; ComponentLink2URL: http://www.analog.com/static/imported-files/data_sheets/REF19xSeries.pdf; ComponentLink3Description: Package Specification; ComponentLink3URL: http://www.analog.com/static/imported-files/packages/PKG_PDF/SOIC_Narrow%20(R)/R_8.pdf; ComponentLink4Description: URL Link1; ComponentLink4URL: Product URL:http://www.analog.com/en/special-linear-functions/voltage-references/ref192/products/product.html
footprint ADI-R-8_N (SOIC, 8-Leads, Body 4.9x3.9mm, Pitch 1.27mm, IPC Medium Density)
footprint ADI-R-8_L (SOIC, 8-Leads, Body 4.9x3.9mm, Pitch 1.27mm, IPC High Density)
footprint ADI-R-8_M (SOIC, 8-Leads, Body 4.9x3.9mm, Pitch 1.27mm, IPC Low Density)
pins: 1 TP, 2 VS (power), 3 ~{SLEEP} (in), 4 GND (power), 5 TP, 6 OUTPUT (hiz), 7 NC, 8 NC

## REF192ESZ-REEL7
designator U?
Precision Micropower, Low Dropout Voltage Reference, 2.5 V Output, 2.6 to 15 V Supply, Industrial, 8-pin SOIC (R-8), Reel; Manufacturer: Analog Devices; PartNumber: REF192ESZ-REEL7; Ref Out TC (ppm/C): 2; Vout: 2.5V; DatasheetVersion: Rev. L; PackageVersion: 060506-A, 06/2006; PackageReference: R-8; PackageDescription: 8-Pin Standard Small Outline Package, Body 4.9 x 3.9 mm, Pitch 1.27 mm; Supplier 1: Digi-Key; Supplier Part Number 1: REF192ESZ-REEL7TR-ND; Supplier 2: Digi-Key; Supplier Part Number 2: REF192ESZ-REEL7CT-ND; Supplier 3: Digi-Key; Supplier Part Number 3: REF192ESZ-REEL7DKR-ND; Supplier 4: Newark; Supplier Part Number 4: 59K9027; Supplier 5: Mouser; Supplier Part Number 5: 584-REF192ESZ-R7; Packing: Reel; Operating Temp Range: -40 to 85 degC; Mounting Technology: Surface Mount; Code_JEDEC: MS-012-AA; ComponentLink1Description: Manufacturer URL; ComponentLink1URL: http://www.analog.com/en/index.html; ComponentLink2Description: Datasheet; ComponentLink2URL: http://www.analog.com/static/imported-files/data_sheets/REF19xSeries.pdf; ComponentLink3Description: Package Specification; ComponentLink3URL: http://www.analog.com/static/imported-files/packages/PKG_PDF/SOIC_Narrow%20(R)/R_8.pdf; ComponentLink4Description: URL Link1; ComponentLink4URL: Product URL:http://www.analog.com/en/special-linear-functions/voltage-references/ref192/products/product.html
footprint ADI-R-8_N (SOIC, 8-Leads, Body 4.9x3.9mm, Pitch 1.27mm, IPC Medium Density)
footprint ADI-R-8_L (SOIC, 8-Leads, Body 4.9x3.9mm, Pitch 1.27mm, IPC High Density)
footprint ADI-R-8_M (SOIC, 8-Leads, Body 4.9x3.9mm, Pitch 1.27mm, IPC Low Density)
pins: 1 TP, 2 VS (power), 3 ~{SLEEP} (in), 4 GND (power), 5 TP, 6 OUTPUT (hiz), 7 NC, 8 NC

## REF192FS
designator U?
Precision Micropower, Low Dropout Voltage Reference, 2.5 V Output, 2.6 to 15 V Supply, Industrial, 8-pin SOIC (R-8), Tube; Manufacturer: Analog Devices; PartNumber: REF192FS; Ref Out TC (ppm/C): 5; Vout: 2.5V; DatasheetVersion: Rev. L; PackageVersion: 060506-A, 06/2006; PackageReference: R-8; PackageDescription: 8-Pin Standard Small Outline Package, Body 4.9 x 3.9 mm, Pitch 1.27 mm; Supplier 1: Digi-Key; Supplier Part Number 1: REF192FS-ND; Supplier 2: Mouser; Supplier Part Number 2: N/A; Packing: Tube; Operating Temp Range: -40 to 85 degC; Mounting Technology: Surface Mount; Code_JEDEC: MS-012-AA; ComponentLink1Description: Manufacturer URL; ComponentLink1URL: http://www.analog.com/en/index.html; ComponentLink2Description: Datasheet; ComponentLink2URL: http://www.analog.com/static/imported-files/data_sheets/REF19xSeries.pdf; ComponentLink3Description: Package Specification; ComponentLink3URL: http://www.analog.com/static/imported-files/packages/PKG_PDF/SOIC_Narrow%20(R)/R_8.pdf; ComponentLink4Description: URL Link1; ComponentLink4URL: Product URL:http://www.analog.com/en/special-linear-functions/voltage-references/ref192/products/product.html
footprint ADI-R-8_N (SOIC, 8-Leads, Body 4.9x3.9mm, Pitch 1.27mm, IPC Medium Density)
footprint ADI-R-8_L (SOIC, 8-Leads, Body 4.9x3.9mm, Pitch 1.27mm, IPC High Density)
footprint ADI-R-8_M (SOIC, 8-Leads, Body 4.9x3.9mm, Pitch 1.27mm, IPC Low Density)
pins: 1 TP, 2 VS (power), 3 ~{SLEEP} (in), 4 GND (power), 5 TP, 6 OUTPUT (hiz), 7 NC, 8 NC

## REF192FSZ
designator U?
Precision Micropower, Low Dropout Voltage Reference, 2.5 V Output, 2.6 to 15 V Supply, Industrial, 8-pin SOIC (R-8), Tube; Manufacturer: Analog Devices; PartNumber: REF192FSZ; Ref Out TC (ppm/C): 5; Vout: 2.5V; DatasheetVersion: Rev. L; PackageVersion: 060506-A, 06/2006; PackageReference: R-8; PackageDescription: 8-Pin Standard Small Outline Package, Body 4.9 x 3.9 mm, Pitch 1.27 mm; Supplier 1: Digi-Key; Supplier Part Number 1: REF192FSZ-ND; Supplier 2: Newark; Supplier Part Number 2: 19M8997; Supplier 3: Mouser; Supplier Part Number 3: 584-REF192FSZ; Packing: Tube; Operating Temp Range: -40 to 85 degC; Mounting Technology: Surface Mount; Code_JEDEC: MS-012-AA; ComponentLink1Description: Manufacturer URL; ComponentLink1URL: http://www.analog.com/en/index.html; ComponentLink2Description: Datasheet; ComponentLink2URL: http://www.analog.com/static/imported-files/data_sheets/REF19xSeries.pdf; ComponentLink3Description: Package Specification; ComponentLink3URL: http://www.analog.com/static/imported-files/packages/PKG_PDF/SOIC_Narrow%20(R)/R_8.pdf; ComponentLink4Description: URL Link1; ComponentLink4URL: Product URL:http://www.analog.com/en/special-linear-functions/voltage-references/ref192/products/product.html
footprint ADI-R-8_N (SOIC, 8-Leads, Body 4.9x3.9mm, Pitch 1.27mm, IPC Medium Density)
footprint ADI-R-8_L (SOIC, 8-Leads, Body 4.9x3.9mm, Pitch 1.27mm, IPC High Density)
footprint ADI-R-8_M (SOIC, 8-Leads, Body 4.9x3.9mm, Pitch 1.27mm, IPC Low Density)
pins: 1 TP, 2 VS (power), 3 ~{SLEEP} (in), 4 GND (power), 5 TP, 6 OUTPUT (hiz), 7 NC, 8 NC

## REF192FSZ-REEL
designator U?
Precision Micropower, Low Dropout Voltage Reference, 2.5 V Output, 2.6 to 15 V Supply, Industrial, 8-pin SOIC (R-8), Reel; Manufacturer: Analog Devices; PartNumber: REF192FSZ-REEL; Ref Out TC (ppm/C): 5; Vout: 2.5V; DatasheetVersion: Rev. L; PackageVersion: 060506-A, 06/2006; PackageReference: R-8; PackageDescription: 8-Pin Standard Small Outline Package, Body 4.9 x 3.9 mm, Pitch 1.27 mm; Supplier 1: Digi-Key; Supplier Part Number 1: REF192FSZ-REEL-ND; Supplier 2: Newark; Supplier Part Number 2: 59K9030; Supplier 3: Mouser; Supplier Part Number 3: 584-REF192FSZ-R; Packing: Reel; Operating Temp Range: -40 to 85 degC; Mounting Technology: Surface Mount; Code_JEDEC: MS-012-AA; ComponentLink1Description: Manufacturer URL; ComponentLink1URL: http://www.analog.com/en/index.html; ComponentLink2Description: Datasheet; ComponentLink2URL: http://www.analog.com/static/imported-files/data_sheets/REF19xSeries.pdf; ComponentLink3Description: Package Specification; ComponentLink3URL: http://www.analog.com/static/imported-files/packages/PKG_PDF/SOIC_Narrow%20(R)/R_8.pdf; ComponentLink4Description: URL Link1; ComponentLink4URL: Product URL:http://www.analog.com/en/special-linear-functions/voltage-references/ref192/products/product.html
footprint ADI-R-8_N (SOIC, 8-Leads, Body 4.9x3.9mm, Pitch 1.27mm, IPC Medium Density)
footprint ADI-R-8_L (SOIC, 8-Leads, Body 4.9x3.9mm, Pitch 1.27mm, IPC High Density)
footprint ADI-R-8_M (SOIC, 8-Leads, Body 4.9x3.9mm, Pitch 1.27mm, IPC Low Density)
pins: 1 TP, 2 VS (power), 3 ~{SLEEP} (in), 4 GND (power), 5 TP, 6 OUTPUT (hiz), 7 NC, 8 NC

## REF192FSZ-REEL7
designator U?
Precision Micropower, Low Dropout Voltage Reference, 2.5 V Output, 2.6 to 15 V Supply, Industrial, 8-pin SOIC (R-8), Reel; Manufacturer: Analog Devices; PartNumber: REF192FSZ-REEL7; Ref Out TC (ppm/C): 5; Vout: 2.5V; DatasheetVersion: Rev. L; PackageVersion: 060506-A, 06/2006; PackageReference: R-8; PackageDescription: 8-Pin Standard Small Outline Package, Body 4.9 x 3.9 mm, Pitch 1.27 mm; Supplier 1: Digi-Key; Supplier Part Number 1: REF192FSZ-REEL7TR-ND; Supplier 2: Digi-Key; Supplier Part Number 2: REF192FSZ-REEL7CT-ND; Supplier 3: Digi-Key; Supplier Part Number 3: REF192FSZ-REEL7DKR-ND; Supplier 4: Mouser; Supplier Part Number 4: 584-REF192FSZ-R7; Packing: Reel; Operating Temp Range: -40 to 85 degC; Mounting Technology: Surface Mount; Code_JEDEC: MS-012-AA; ComponentLink1Description: Manufacturer URL; ComponentLink1URL: http://www.analog.com/en/index.html; ComponentLink2Description: Datasheet; ComponentLink2URL: http://www.analog.com/static/imported-files/data_sheets/REF19xSeries.pdf; ComponentLink3Description: Package Specification; ComponentLink3URL: http://www.analog.com/static/imported-files/packages/PKG_PDF/SOIC_Narrow%20(R)/R_8.pdf; ComponentLink4Description: URL Link1; ComponentLink4URL: Product URL:http://www.analog.com/en/special-linear-functions/voltage-references/ref192/products/product.html
footprint ADI-R-8_N (SOIC, 8-Leads, Body 4.9x3.9mm, Pitch 1.27mm, IPC Medium Density)
footprint ADI-R-8_L (SOIC, 8-Leads, Body 4.9x3.9mm, Pitch 1.27mm, IPC High Density)
footprint ADI-R-8_M (SOIC, 8-Leads, Body 4.9x3.9mm, Pitch 1.27mm, IPC Low Density)
pins: 1 TP, 2 VS (power), 3 ~{SLEEP} (in), 4 GND (power), 5 TP, 6 OUTPUT (hiz), 7 NC, 8 NC

## REF192GPZ
designator U?
Precision Micropower, Low Dropout Voltage Reference, 2.5 V Output, 2.6 to 15 V Supply, Industrial, 8-pin DIP (N-8), Tube; Manufacturer: Analog Devices; PartNumber: REF192GPZ; Ref Out TC (ppm/C): 10; Vout: 2.5V; DatasheetVersion: Rev. L; PackageVersion: 070606-A, 07/2006; PackageReference: N-8; PackageDescription: 8-Pin Plastic Dual In-Line Package, Row spacing 7.62 mm, Pitch 2.54 mm; Supplier 1: Digi-Key; Supplier Part Number 1: REF192GPZ-ND; Supplier 2: Farnell; Supplier Part Number 2: 9605398; Supplier 3: Newark; Supplier Part Number 3: 19M1040; Supplier 4: Mouser; Supplier Part Number 4: 584-REF192GPZ; Packing: Tube; Operating Temp Range: -40 to 85 degC; Mounting Technology: Through Hole; Code_JEDEC: MS-001; ComponentLink1Description: Manufacturer URL; ComponentLink1URL: http://www.analog.com/en/index.html; ComponentLink2Description: Datasheet; ComponentLink2URL: http://www.analog.com/static/imported-files/data_sheets/REF19xSeries.pdf; ComponentLink3Description: Package Specification; ComponentLink3URL: http:/www.analog.com/static/imported-files/packages/PKG_PDF/PDIP(N)/N_8.pdf; ComponentLink4Description: URL Link1; ComponentLink4URL: Product URL:http://www.analog.com/en/special-linear-functions/voltage-references/ref192/products/product.html
footprint ADI-N-8 (DIP, 8-Leads, Body 9.59x6.6mm, Pitch 2.54mm)
pins: 1 TP, 2 VS (power), 3 ~{SLEEP} (in), 4 GND (power), 5 TP, 6 OUTPUT (hiz), 7 NC, 8 NC

## REF192GRUZ
designator U?
Precision Micropower, Low Dropout Voltage Reference, 2.5 V Output, 2.6 to 15 V Supply, Industrial, 8-pin SOP (RU-8), Tube; Manufacturer: Analog Devices; PartNumber: REF192GRUZ; Ref Out TC (ppm/C): 10; Vout: 2.5V; DatasheetVersion: Rev. L; PackageVersion: Jan-03; PackageReference: RU-8; PackageDescription: 8-Pin Thin Shrink Small Outline Package, Body 3 x 4.4 mm, Pitch 0.65 mm; Supplier 1: Digi-Key; Supplier Part Number 1: REF192GRUZ-ND; Supplier 2: Farnell; Supplier Part Number 2: 2102504; Supplier 3: Newark; Supplier Part Number 3: 19M8998; Supplier 4: Mouser; Supplier Part Number 4: 584-REF192GRUZ; Packing: Tube; Operating Temp Range: -40 to 85 degC; Mounting Technology: Surface Mount; Code_JEDEC: MO-153AA; ComponentLink1Description: Manufacturer URL; ComponentLink1URL: http://www.analog.com/en/index.html; ComponentLink2Description: Datasheet; ComponentLink2URL: http://www.analog.com/static/imported-files/data_sheets/REF19xSeries.pdf; ComponentLink3Description: Package Specification; ComponentLink3URL: http://www.analog.com/static/imported-files/packages/359224089841708504863856053953356548880RU08.pdf; ComponentLink4Description: URL Link1; ComponentLink4URL: Product URL:http://www.analog.com/en/special-linear-functions/voltage-references/ref192/products/product.html
footprint ADI-RU-8_N (SOP, 8-Leads, Body 4.4x3mm, Pitch 0.65mm, IPC Medium Density)
footprint ADI-RU-8_L (SOP, 8-Leads, Body 4.4x3mm, Pitch 0.65mm, IPC High Density)
footprint ADI-RU-8_M (SOP, 8-Leads, Body 4.4x3mm, Pitch 0.65mm, IPC Low Density)
pins: 1 TP, 2 VS (power), 3 ~{SLEEP} (in), 4 GND (power), 5 TP, 6 OUTPUT (hiz), 7 NC, 8 NC

## REF192GRUZ-REEL7
designator U?
Precision Micropower, Low Dropout Voltage Reference, 2.5 V Output, 2.6 to 15 V Supply, Industrial, 8-pin SOP (RU-8), Reel; Manufacturer: Analog Devices; PartNumber: REF192GRUZ-REEL7; Ref Out TC (ppm/C): 10; Vout: 2.5V; DatasheetVersion: Rev. L; PackageVersion: Jan-03; PackageReference: RU-8; PackageDescription: 8-Pin Thin Shrink Small Outline Package, Body 3 x 4.4 mm, Pitch 0.65 mm; Supplier 1: Digi-Key; Supplier Part Number 1: REF192GRUZ-REEL7TR-ND; Supplier 2: Digi-Key; Supplier Part Number 2: REF192GRUZ-REEL7CT-ND; Supplier 3: Digi-Key; Supplier Part Number 3: REF192GRUZ-REEL7DKR-ND; Supplier 4: Newark; Supplier Part Number 4: 59K9033; Supplier 5: Mouser; Supplier Part Number 5: 584-REF192GRUZ-R7; Packing: Reel; Operating Temp Range: -40 to 85 degC; Mounting Technology: Surface Mount; Code_JEDEC: MO-153AA; ComponentLink1Description: Manufacturer URL; ComponentLink1URL: http://www.analog.com/en/index.html; ComponentLink2Description: Datasheet; ComponentLink2URL: http://www.analog.com/static/imported-files/data_sheets/REF19xSeries.pdf; ComponentLink3Description: Package Specification; ComponentLink3URL: http://www.analog.com/static/imported-files/packages/359224089841708504863856053953356548880RU08.pdf; ComponentLink4Description: URL Link1; ComponentLink4URL: Product URL:http://www.analog.com/en/special-linear-functions/voltage-references/ref192/products/product.html
footprint ADI-RU-8_N (SOP, 8-Leads, Body 4.4x3mm, Pitch 0.65mm, IPC Medium Density)
footprint ADI-RU-8_L (SOP, 8-Leads, Body 4.4x3mm, Pitch 0.65mm, IPC High Density)
footprint ADI-RU-8_M (SOP, 8-Leads, Body 4.4x3mm, Pitch 0.65mm, IPC Low Density)
pins: 1 TP, 2 VS (power), 3 ~{SLEEP} (in), 4 GND (power), 5 TP, 6 OUTPUT (hiz), 7 NC, 8 NC

## REF192GS
designator U?
Precision Micropower, Low Dropout Voltage Reference, 2.5 V Output, 2.6 to 15 V Supply, Industrial, 8-pin SOIC (R-8), Tube; Manufacturer: Analog Devices; PartNumber: REF192GS; Ref Out TC (ppm/C): 10; Vout: 2.5V; DatasheetVersion: Rev. L; PackageVersion: 060506-A, 06/2006; PackageReference: R-8; PackageDescription: 8-Pin Standard Small Outline Package, Body 4.9 x 3.9 mm, Pitch 1.27 mm; Supplier 1: Digi-Key; Supplier Part Number 1: REF192GS-ND; Supplier 2: Mouser; Supplier Part Number 2: N/A; Packing: Tube; Operating Temp Range: -40 to 85 degC; Mounting Technology: Surface Mount; Code_JEDEC: MS-012-AA; ComponentLink1Description: Manufacturer URL; ComponentLink1URL: http://www.analog.com/en/index.html; ComponentLink2Description: Datasheet; ComponentLink2URL: http://www.analog.com/static/imported-files/data_sheets/REF19xSeries.pdf; ComponentLink3Description: Package Specification; ComponentLink3URL: http://www.analog.com/static/imported-files/packages/PKG_PDF/SOIC_Narrow%20(R)/R_8.pdf; ComponentLink4Description: URL Link1; ComponentLink4URL: Product URL:http://www.analog.com/en/special-linear-functions/voltage-references/ref192/products/product.html
footprint ADI-R-8_N (SOIC, 8-Leads, Body 4.9x3.9mm, Pitch 1.27mm, IPC Medium Density)
footprint ADI-R-8_L (SOIC, 8-Leads, Body 4.9x3.9mm, Pitch 1.27mm, IPC High Density)
footprint ADI-R-8_M (SOIC, 8-Leads, Body 4.9x3.9mm, Pitch 1.27mm, IPC Low Density)
pins: 1 TP, 2 VS (power), 3 ~{SLEEP} (in), 4 GND (power), 5 TP, 6 OUTPUT (hiz), 7 NC, 8 NC

## REF192GSZ
designator U?
Precision Micropower, Low Dropout Voltage Reference, 2.5 V Output, 2.6 to 15 V Supply, Industrial, 8-pin SOIC (R-8), Tube; Manufacturer: Analog Devices; PartNumber: REF192GSZ; Ref Out TC (ppm/C): 10; Vout: 2.5V; DatasheetVersion: Rev. L; PackageVersion: 060506-A, 06/2006; PackageReference: R-8; PackageDescription: 8-Pin Standard Small Outline Package, Body 4.9 x 3.9 mm, Pitch 1.27 mm; Supplier 1: Digi-Key; Supplier Part Number 1: REF192GSZ-ND; Supplier 2: Farnell; Supplier Part Number 2: 9605207; Supplier 3: Newark; Supplier Part Number 3: 19M1041; Supplier 4: Mouser; Supplier Part Number 4: 584-REF192GSZ; Packing: Tube; Operating Temp Range: -40 to 85 degC; Mounting Technology: Surface Mount; Code_JEDEC: MS-012-AA; ComponentLink1Description: Manufacturer URL; ComponentLink1URL: http://www.analog.com/en/index.html; ComponentLink2Description: Datasheet; ComponentLink2URL: http://www.analog.com/static/imported-files/data_sheets/REF19xSeries.pdf; ComponentLink3Description: Package Specification; ComponentLink3URL: http://www.analog.com/static/imported-files/packages/PKG_PDF/SOIC_Narrow%20(R)/R_8.pdf; ComponentLink4Description: URL Link1; ComponentLink4URL: Product URL:http://www.analog.com/en/special-linear-functions/voltage-references/ref192/products/product.html
footprint ADI-R-8_N (SOIC, 8-Leads, Body 4.9x3.9mm, Pitch 1.27mm, IPC Medium Density)
footprint ADI-R-8_L (SOIC, 8-Leads, Body 4.9x3.9mm, Pitch 1.27mm, IPC High Density)
footprint ADI-R-8_M (SOIC, 8-Leads, Body 4.9x3.9mm, Pitch 1.27mm, IPC Low Density)
pins: 1 TP, 2 VS (power), 3 ~{SLEEP} (in), 4 GND (power), 5 TP, 6 OUTPUT (hiz), 7 NC, 8 NC

## REF192GSZ-REEL
designator U?
Precision Micropower, Low Dropout Voltage Reference, 2.5 V Output, 2.6 to 15 V Supply, Industrial, 8-pin SOIC (R-8), Reel; Manufacturer: Analog Devices; PartNumber: REF192GSZ-REEL; Ref Out TC (ppm/C): 10; Vout: 2.5V; DatasheetVersion: Rev. L; PackageVersion: 060506-A, 06/2006; PackageReference: R-8; PackageDescription: 8-Pin Standard Small Outline Package, Body 4.9 x 3.9 mm, Pitch 1.27 mm; Supplier 1: Digi-Key; Supplier Part Number 1: REF192GSZ-REEL-ND; Supplier 2: Newark; Supplier Part Number 2: 59K9035; Supplier 3: Mouser; Supplier Part Number 3: 584-REF192GSZ-R; Packing: Reel; Operating Temp Range: -40 to 85 degC; Mounting Technology: Surface Mount; Code_JEDEC: MS-012-AA; ComponentLink1Description: Manufacturer URL; ComponentLink1URL: http://www.analog.com/en/index.html; ComponentLink2Description: Datasheet; ComponentLink2URL: http://www.analog.com/static/imported-files/data_sheets/REF19xSeries.pdf; ComponentLink3Description: Package Specification; ComponentLink3URL: http://www.analog.com/static/imported-files/packages/PKG_PDF/SOIC_Narrow%20(R)/R_8.pdf; ComponentLink4Description: URL Link1; ComponentLink4URL: Product URL:http://www.analog.com/en/special-linear-functions/voltage-references/ref192/products/product.html
footprint ADI-R-8_N (SOIC, 8-Leads, Body 4.9x3.9mm, Pitch 1.27mm, IPC Medium Density)
footprint ADI-R-8_L (SOIC, 8-Leads, Body 4.9x3.9mm, Pitch 1.27mm, IPC High Density)
footprint ADI-R-8_M (SOIC, 8-Leads, Body 4.9x3.9mm, Pitch 1.27mm, IPC Low Density)
pins: 1 TP, 2 VS (power), 3 ~{SLEEP} (in), 4 GND (power), 5 TP, 6 OUTPUT (hiz), 7 NC, 8 NC

## REF192GSZ-REEL7
designator U?
Precision Micropower, Low Dropout Voltage Reference, 2.5 V Output, 2.6 to 15 V Supply, Industrial, 8-pin SOIC (R-8), Reel; Manufacturer: Analog Devices; PartNumber: REF192GSZ-REEL7; Ref Out TC (ppm/C): 10; Vout: 2.5V; DatasheetVersion: Rev. L; PackageVersion: 060506-A, 06/2006; PackageReference: R-8; PackageDescription: 8-Pin Standard Small Outline Package, Body 4.9 x 3.9 mm, Pitch 1.27 mm; Supplier 1: Digi-Key; Supplier Part Number 1: REF192GSZ-REEL7TR-ND; Supplier 2: Digi-Key; Supplier Part Number 2: REF192GSZ-REEL7CT-ND; Supplier 3: Digi-Key; Supplier Part Number 3: REF192GSZ-REEL7DKR-ND; Supplier 4: Newark; Supplier Part Number 4: 59K9036; Supplier 5: Mouser; Supplier Part Number 5: 584-REF192GSZ-R7; Packing: Reel; Operating Temp Range: -40 to 85 degC; Mounting Technology: Surface Mount; Code_JEDEC: MS-012-AA; ComponentLink1Description: Manufacturer URL; ComponentLink1URL: http://www.analog.com/en/index.html; ComponentLink2Description: Datasheet; ComponentLink2URL: http://www.analog.com/static/imported-files/data_sheets/REF19xSeries.pdf; ComponentLink3Description: Package Specification; ComponentLink3URL: http://www.analog.com/static/imported-files/packages/PKG_PDF/SOIC_Narrow%20(R)/R_8.pdf; ComponentLink4Description: URL Link1; ComponentLink4URL: Product URL:http://www.analog.com/en/special-linear-functions/voltage-references/ref192/products/product.html
footprint ADI-R-8_N (SOIC, 8-Leads, Body 4.9x3.9mm, Pitch 1.27mm, IPC Medium Density)
footprint ADI-R-8_L (SOIC, 8-Leads, Body 4.9x3.9mm, Pitch 1.27mm, IPC High Density)
footprint ADI-R-8_M (SOIC, 8-Leads, Body 4.9x3.9mm, Pitch 1.27mm, IPC Low Density)
pins: 1 TP, 2 VS (power), 3 ~{SLEEP} (in), 4 GND (power), 5 TP, 6 OUTPUT (hiz), 7 NC, 8 NC

## REF193GSZ
designator U?
Precision Micropower, Low Dropout Voltage Reference, 3 V Output, 3.2 to 15 V Supply, Industrial, 8-pin SOIC (R-8), Tube; Manufacturer: Analog Devices; PartNumber: REF193GSZ; Ref Out TC (ppm/C): 10; Vout: 3V; DatasheetVersion: Rev. L; PackageVersion: 060506-A, 06/2006; PackageReference: R-8; PackageDescription: 8-Pin Standard Small Outline Package, Body 4.9 x 3.9 mm, Pitch 1.27 mm; Supplier 1: Digi-Key; Supplier Part Number 1: REF193GSZ-ND; Supplier 2: Newark; Supplier Part Number 2: 19M8999; Supplier 3: Mouser; Supplier Part Number 3: 584-REF193GSZ; Packing: Tube; Operating Temp Range: -40 to 85 degC; Mounting Technology: Surface Mount; Code_JEDEC: MS-012-AA; ComponentLink1Description: Manufacturer URL; ComponentLink1URL: http://www.analog.com/en/index.html; ComponentLink2Description: Datasheet; ComponentLink2URL: http://www.analog.com/static/imported-files/data_sheets/REF19xSeries.pdf; ComponentLink3Description: Package Specification; ComponentLink3URL: http://www.analog.com/static/imported-files/packages/PKG_PDF/SOIC_Narrow%20(R)/R_8.pdf; ComponentLink4Description: URL Link1; ComponentLink4URL: Product URL:http://www.analog.com/en/special-linear-functions/voltage-references/ref193/products/product.html
footprint ADI-R-8_N (SOIC, 8-Leads, Body 4.9x3.9mm, Pitch 1.27mm, IPC Medium Density)
footprint ADI-R-8_L (SOIC, 8-Leads, Body 4.9x3.9mm, Pitch 1.27mm, IPC High Density)
footprint ADI-R-8_M (SOIC, 8-Leads, Body 4.9x3.9mm, Pitch 1.27mm, IPC Low Density)
pins: 1 TP, 2 VS (power), 3 ~{SLEEP} (in), 4 GND (power), 5 TP, 6 OUTPUT (hiz), 7 NC, 8 NC

## REF193GSZ-REEL
designator U?
Precision Micropower, Low Dropout Voltage Reference, 3 V Output, 3.2 to 15 V Supply, Industrial, 8-pin SOIC (R-8), Reel; Manufacturer: Analog Devices; PartNumber: REF193GSZ-REEL; Ref Out TC (ppm/C): 10; Vout: 3V; DatasheetVersion: Rev. L; PackageVersion: 060506-A, 06/2006; PackageReference: R-8; PackageDescription: 8-Pin Standard Small Outline Package, Body 4.9 x 3.9 mm, Pitch 1.27 mm; Supplier 1: Digi-Key; Supplier Part Number 1: REF193GSZ-REELTR-ND; Supplier 2: Digi-Key; Supplier Part Number 2: REF193GSZ-REELCT-ND; Supplier 3: Digi-Key; Supplier Part Number 3: REF193GSZ-REELDKR-ND; Supplier 4: Newark; Supplier Part Number 4: 59K9038; Supplier 5: Mouser; Supplier Part Number 5: 584-REF193GSZ-R; Packing: Reel; Operating Temp Range: -40 to 85 degC; Mounting Technology: Surface Mount; Code_JEDEC: MS-012-AA; ComponentLink1Description: Manufacturer URL; ComponentLink1URL: http://www.analog.com/en/index.html; ComponentLink2Description: Datasheet; ComponentLink2URL: http://www.analog.com/static/imported-files/data_sheets/REF19xSeries.pdf; ComponentLink3Description: Package Specification; ComponentLink3URL: http://www.analog.com/static/imported-files/packages/PKG_PDF/SOIC_Narrow%20(R)/R_8.pdf; ComponentLink4Description: URL Link1; ComponentLink4URL: Product URL:http://www.analog.com/en/special-linear-functions/voltage-references/ref193/products/product.html
footprint ADI-R-8_N (SOIC, 8-Leads, Body 4.9x3.9mm, Pitch 1.27mm, IPC Medium Density)
footprint ADI-R-8_L (SOIC, 8-Leads, Body 4.9x3.9mm, Pitch 1.27mm, IPC High Density)
footprint ADI-R-8_M (SOIC, 8-Leads, Body 4.9x3.9mm, Pitch 1.27mm, IPC Low Density)
pins: 1 TP, 2 VS (power), 3 ~{SLEEP} (in), 4 GND (power), 5 TP, 6 OUTPUT (hiz), 7 NC, 8 NC